# Altium footprint library SSQ-108-02-T-S-RA.PcbLib: 1 footprints
Each footprint in its own frame and in the unit in brackets; x right, y up, seen from the top. Pads: shape width x height; smd on the part's side, far side on the other; paste and mask are expansions set on the pad; w line width, h text height; cw(c..) or ccw(c..) is an arc to the next point about the centre after c.
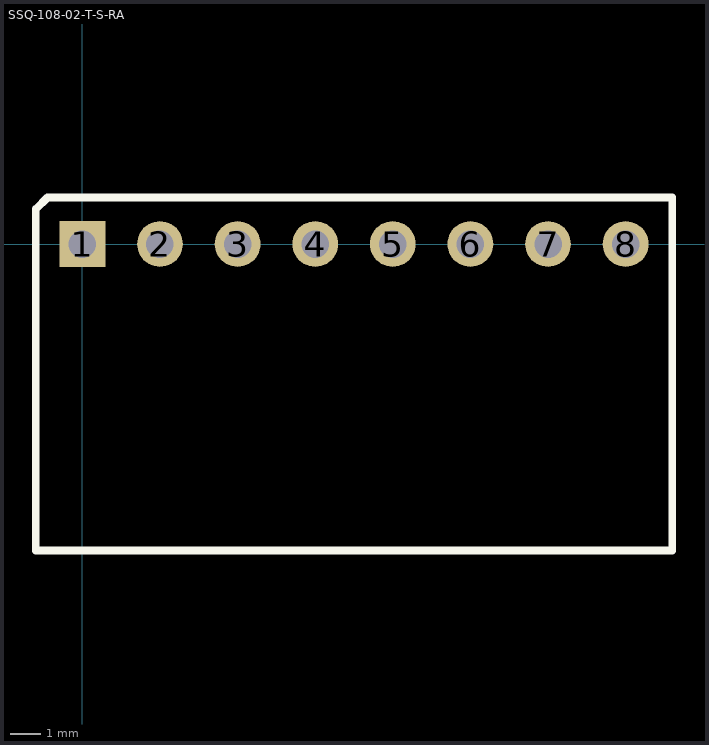
[diagram p0: the footprint, top view; thin cyan lines are the x and y axes]

## SSQ-108-02-T-S-RA [mm] "Connector; Header; 8 Position; Right Angle"
pads (8):
  rect 1.5x1.5 hole 0.9: 1(0,0)
  round 1.5 hole 0.9: 2(2.54,0) 3(5.08,0) 4(7.62,0) 5(10.16,0) 6(12.7,0) 7(15.24,0) 8(17.78,0)
Top Overlay:
  lines w0.254: -1.524,-10.033 19.304,-10.033 19.304,1.524 -1.143,1.524 -1.524,1.143 -1.524,-10.033
3D body "SSQ-108-02-T-S-RA.stp": height 2.43, standoff -2.53, extent -1.524,-10.033 19.304,0.318